# Altium footprint library QFN-16_custom.PcbLib: 1 footprints
Each footprint in its own frame and in the unit in brackets; x right, y up, seen from the top. Pads: shape width x height; smd on the part's side, far side on the other; paste and mask are expansions set on the pad; w line width, h text height; cw(c..) or ccw(c..) is an arc to the next point about the centre after c.
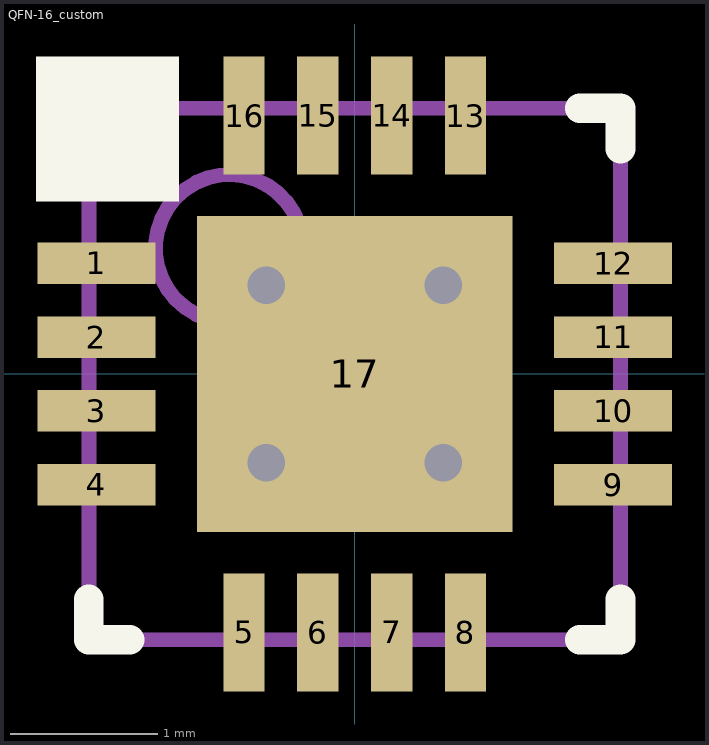
[diagram p0: the footprint, top view; thin cyan lines are the x and y axes]

## QFN-16_custom [mm] "Plastic Quad Flatpack 16 pins, 0.5 mm pitch"
height 1
pads (17):
  rect 0.8x0.28 smd: 1(-1.75,0.75) 2(-1.75,0.25) 3(-1.75,-0.25) 4(-1.75,-0.75) 9(1.75,-0.75) 10(1.75,-0.25) 11(1.75,0.25) 12(1.75,0.75)
  rect 0.28x0.8 smd: 5(-0.75,-1.75) 6(-0.25,-1.75) 7(0.25,-1.75) 8(0.75,-1.75) 13(0.75,1.75) 14(0.25,1.75) 15(-0.25,1.75) 16(-0.75,1.75)
  rect 2.14x2.14 smd: 17(0,0)
via -0.6,0.6 diameter 0.508 hole 0.254
via 0.6,0.6 diameter 0.508 hole 0.254
via -0.6,-0.6 diameter 0.508 hole 0.254
via 0.6,-0.6 diameter 0.508 hole 0.254
Top Overlay:
  rectangle: -2.16,1.17 -1.19,2.15
  lines w0.2: -1.8,-1.525 -1.8,-1.8 -1.525,-1.8 ; -1.8,1.525 -1.8,1.8 -1.525,1.8 ; 1.525,-1.8 1.8,-1.8 1.8,-1.525 ; 1.525,1.8 1.8,1.8 1.8,1.525
Mechanical 13:
  circle w0.1: c-0.85,0.85 r0.5
  lines w0.1: -1.8,-1.8 -1.8,1.8 1.8,1.8 1.8,-1.8 -1.8,-1.8
Mechanical 15:
  lines w0.1: -0.5,0 0.5,0 ; 0,-0.5 0,0.5
3D body: height 1, standoff 0.08, extent -1.8,-1.8 1.8,1.8